# Altium footprint library 4pin.PcbLib: 1 footprints
Each footprint in its own frame and in the unit in brackets; x right, y up, seen from the top. Pads: shape width x height; smd on the part's side, far side on the other; paste and mask are expansions set on the pad; w line width, h text height; cw(c..) or ccw(c..) is an arc to the next point about the centre after c.
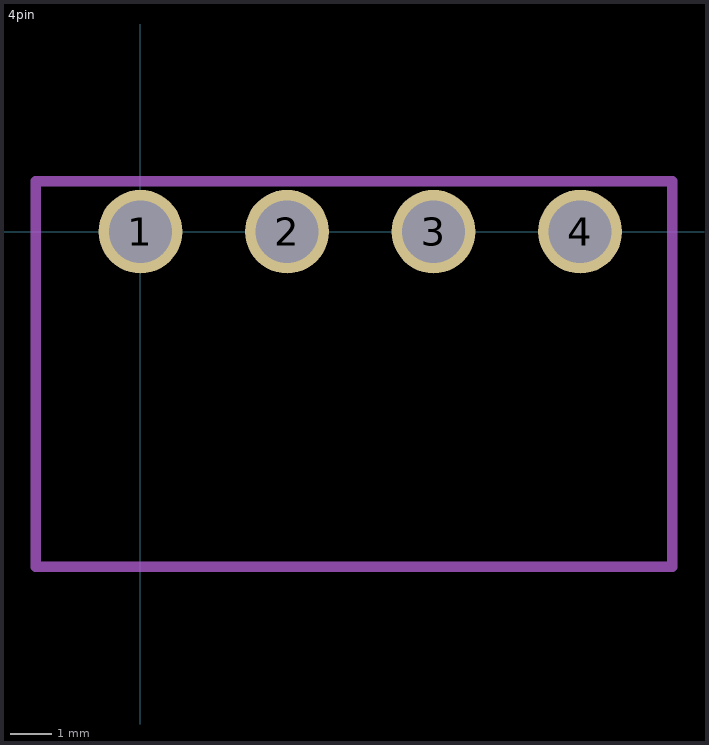
[diagram p0: the footprint, top view; thin cyan lines are the x and y axes]

## 4pin [mm]
pads (4):
  round 2 hole 1.5: 1(0,0) 2(3.5,0) 3(7,0) 4(10.5,0)
Mechanical 1:
  lines w0.254: -2.5,-8 -2.5,1.2 12.7,1.2 12.7,-8 -2.45,-8
3D body "1844236.stp": height 7.25, standoff -3.4, extent -2.536,-7.941 12.864,1.259